# Altium footprint library 22057055.PcbLib: 1 footprints
Each footprint in its own frame and in the unit in brackets; x right, y up, seen from the top. Pads: shape width x height; smd on the part's side, far side on the other; paste and mask are expansions set on the pad; w line width, h text height; cw(c..) or ccw(c..) is an arc to the next point about the centre after c.
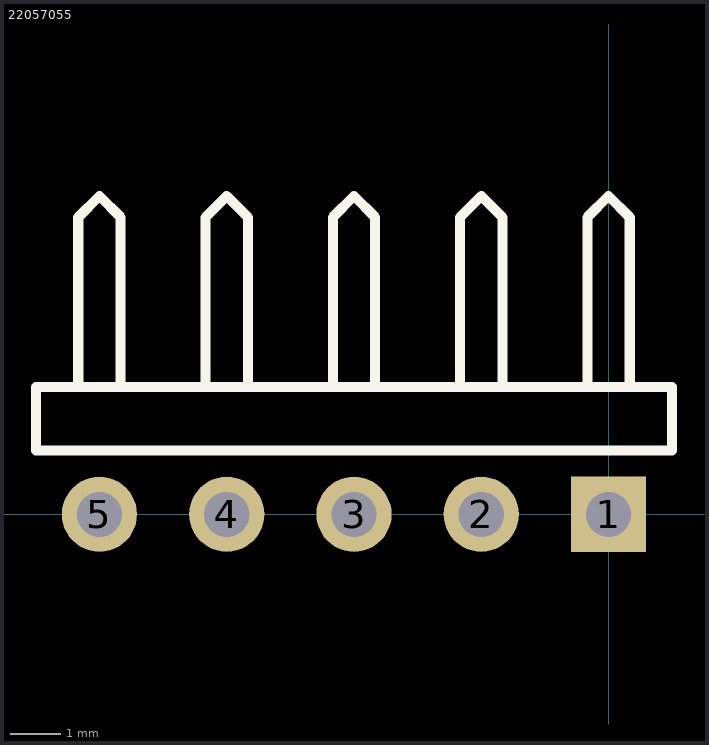
[diagram p0: the footprint, top view; thin cyan lines are the x and y axes]

## 22057055 [mm]
pads (5):
  rect 1.5x1.5 hole 0.9: 1(0,0)
  round 1.5 hole 0.9: 2(-2.54,0) 3(-5.08,0) 4(-7.62,0) 5(-10.16,0)
Top Overlay:
  lines w0.2: -10.583,2.54 -10.583,5.927 -10.16,6.35 -9.737,5.927 -9.737,2.54 ; -8.043,2.54 -8.043,5.927 -7.62,6.35 -7.197,5.927 -7.197,2.54 ; -5.503,2.54 -5.503,5.927 -5.08,6.35 -4.657,5.927 -4.657,2.54 ; -2.963,2.54 -2.963,5.927 -2.54,6.35 -2.117,5.927 -2.117,2.54 ; -0.423,2.54 -0.423,5.927 0,6.35 0.423,5.927 0.423,2.54 ; -11.43,1.27 1.27,1.27 1.27,2.54 -11.43,2.54 -11.43,1.27
3D body "022057055.stp": height 4.95, standoff -3.45, extent -12.487,-1.283 2.413,6.617